# Altium integrated library LM7809CT.IntLib: 1 symbol
Pins are listed as number, name and electrical type; pins without a type are passive.

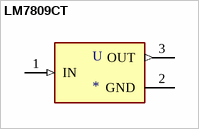
[diagram p0: symbol LM7809CT]

## LM7809CT
designator U
Linear Voltage Regulator IC 1 Output 1A TO-220-3; MP: LM7809C; MF: Fujitsu; Price: None; SnapEDA_Link: https://www.snapeda.com/parts/LM7809C/Fujitsu/view-part/1233224/?ref=snap; Package: TO-220-3 Fujitsu; Value: *; Availability: Unavailable
footprint TO254P470X1016X1879-3P
footprint TO254P470X1016X1879-3P
pins: 1 IN (in), 2 GND (power), 3 OUT (out)